# Altium schematic symbol library SCH - MCU - INFINEON - INFINEON S6E2C4AH0XXV2 LQFP-144.SchLib: 1 symbol
Pins are listed as number, name and electrical type; pins without a type are passive.

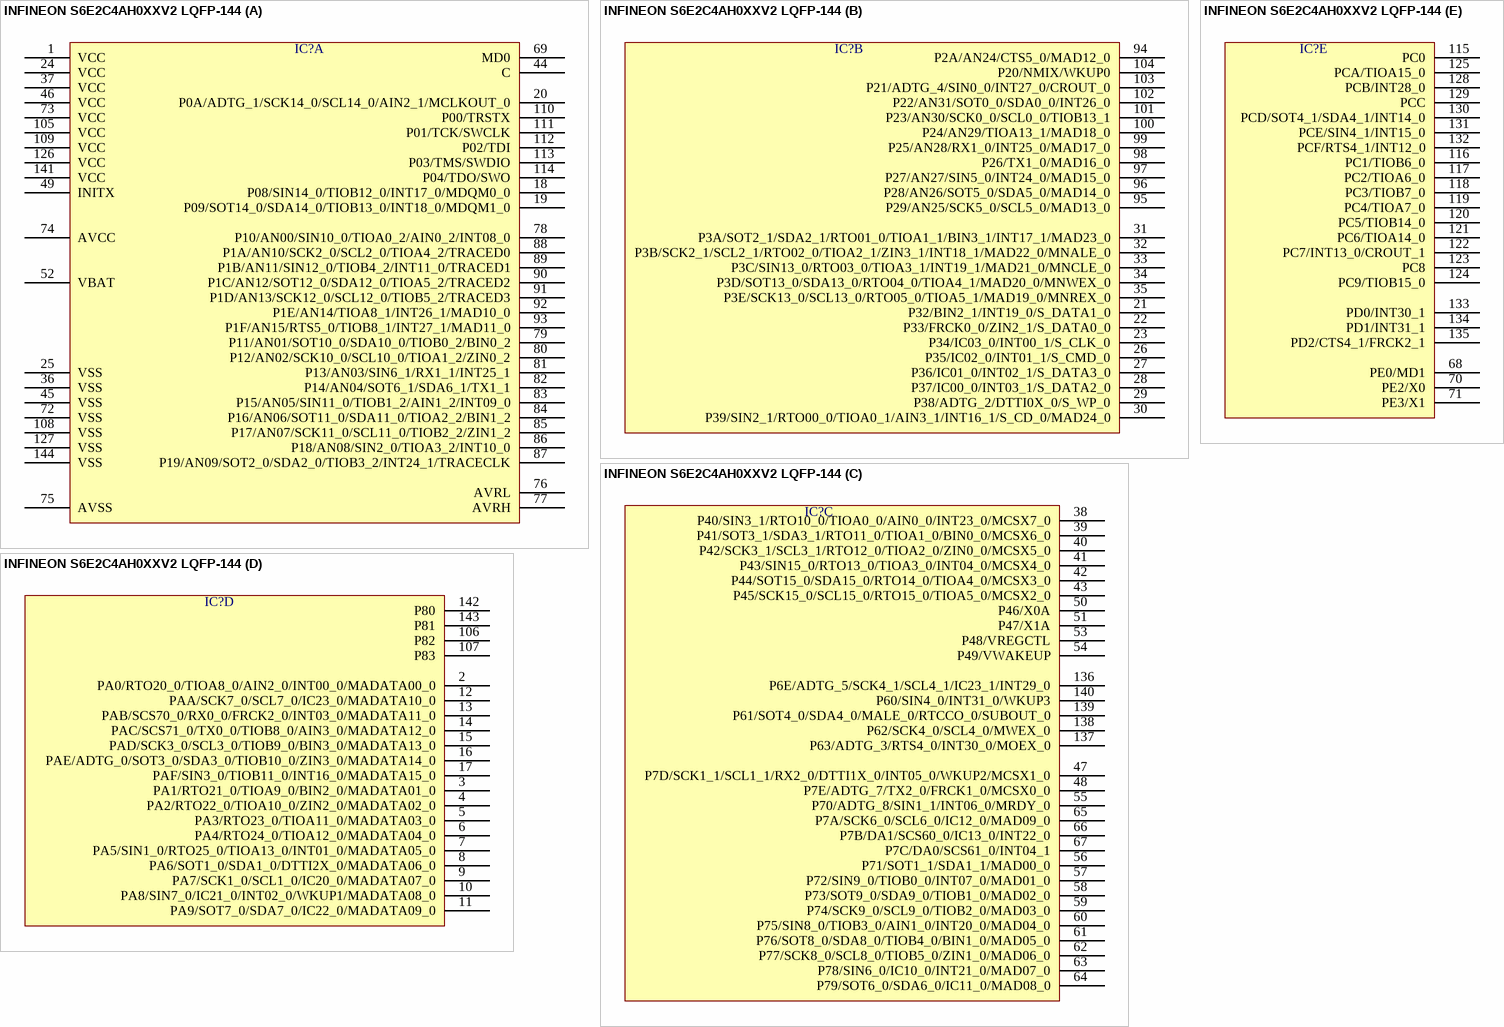
[diagram p0: symbol INFINEON S6E2C4AH0XXV2 LQFP-144]

## INFINEON S6E2C4AH0XXV2 LQFP-144
designator IC?  (value not drawn)
part A pins: 1 VCC, 18 P08/SIN14_0/TIOB12_0/INT17_0/MDQM0_0, 19 P09/SOT14_0/SDA14_0/TIOB13_0/INT18_0/MDQM1_0, 20 P0A/ADTG_1/SCK14_0/SCL14_0/AIN2_1/MCLKOUT_0, 24 VCC, 25 VSS, 36 VSS, 37 VCC, 44 C, 45 VSS, 46 VCC, 49 INITX, 52 VBAT, 69 MD0, 72 VSS, 73 VCC, 74 AVCC, 75 AVSS, 76 AVRL, 77 AVRH, 78 P10/AN00/SIN10_0/TIOA0_2/AIN0_2/INT08_0, 79 P11/AN01/SOT10_0/SDA10_0/TIOB0_2/BIN0_2, 80 P12/AN02/SCK10_0/SCL10_0/TIOA1_2/ZIN0_2, 81 P13/AN03/SIN6_1/RX1_1/INT25_1, 82 P14/AN04/SOT6_1/SDA6_1/TX1_1, 83 P15/AN05/SIN11_0/TIOB1_2/AIN1_2/INT09_0, 84 P16/AN06/SOT11_0/SDA11_0/TIOA2_2/BIN1_2, 85 P17/AN07/SCK11_0/SCL11_0/TIOB2_2/ZIN1_2, 86 P18/AN08/SIN2_0/TIOA3_2/INT10_0, 87 P19/AN09/SOT2_0/SDA2_0/TIOB3_2/INT24_1/TRACECLK, 88 P1A/AN10/SCK2_0/SCL2_0/TIOA4_2/TRACED0, 89 P1B/AN11/SIN12_0/TIOB4_2/INT11_0/TRACED1, 90 P1C/AN12/SOT12_0/SDA12_0/TIOA5_2/TRACED2, 91 P1D/AN13/SCK12_0/SCL12_0/TIOB5_2/TRACED3, 92 P1E/AN14/TIOA8_1/INT26_1/MAD10_0, 93 P1F/AN15/RTS5_0/TIOB8_1/INT27_1/MAD11_0, 105 VCC, 108 VSS, 109 VCC, 110 P00/TRSTX, 111 P01/TCK/SWCLK, 112 P02/TDI, 113 P03/TMS/SWDIO, 114 P04/TDO/SWO, 126 VCC, 127 VSS, 141 VCC, 144 VSS
part B pins: 21 P32/BIN2_1/INT19_0/S_DATA1_0, 22 P33/FRCK0_0/ZIN2_1/S_DATA0_0, 23 P34/IC03_0/INT00_1/S_CLK_0, 26 P35/IC02_0/INT01_1/S_CMD_0, 27 P36/IC01_0/INT02_1/S_DATA3_0, 28 P37/IC00_0/INT03_1/S_DATA2_0, 29 P38/ADTG_2/DTTI0X_0/S_WP_0, 30 P39/SIN2_1/RTO00_0/TIOA0_1/AIN3_1/INT16_1/S_CD_0/MAD24_0, 31 P3A/SOT2_1/SDA2_1/RTO01_0/TIOA1_1/BIN3_1/INT17_1/MAD23_0, 32 P3B/SCK2_1/SCL2_1/RTO02_0/TIOA2_1/ZIN3_1/INT18_1/MAD22_0/MNALE_0, 33 P3C/SIN13_0/RTO03_0/TIOA3_1/INT19_1/MAD21_0/MNCLE_0, 34 P3D/SOT13_0/SDA13_0/RTO04_0/TIOA4_1/MAD20_0/MNWEX_0, 35 P3E/SCK13_0/SCL13_0/RTO05_0/TIOA5_1/MAD19_0/MNREX_0, 94 P2A/AN24/CTS5_0/MAD12_0, 95 P29/AN25/SCK5_0/SCL5_0/MAD13_0, 96 P28/AN26/SOT5_0/SDA5_0/MAD14_0, 97 P27/AN27/SIN5_0/INT24_0/MAD15_0, 98 P26/TX1_0/MAD16_0, 99 P25/AN28/RX1_0/INT25_0/MAD17_0, 100 P24/AN29/TIOA13_1/MAD18_0, 101 P23/AN30/SCK0_0/SCL0_0/TIOB13_1, 102 P22/AN31/SOT0_0/SDA0_0/INT26_0, 103 P21/ADTG_4/SIN0_0/INT27_0/CROUT_0, 104 P20/NMIX/WKUP0
part C pins: 38 P40/SIN3_1/RTO10_0/TIOA0_0/AIN0_0/INT23_0/MCSX7_0, 39 P41/SOT3_1/SDA3_1/RTO11_0/TIOA1_0/BIN0_0/MCSX6_0, 40 P42/SCK3_1/SCL3_1/RTO12_0/TIOA2_0/ZIN0_0/MCSX5_0, 41 P43/SIN15_0/RTO13_0/TIOA3_0/INT04_0/MCSX4_0, 42 P44/SOT15_0/SDA15_0/RTO14_0/TIOA4_0/MCSX3_0, 43 P45/SCK15_0/SCL15_0/RTO15_0/TIOA5_0/MCSX2_0, 47 P7D/SCK1_1/SCL1_1/RX2_0/DTTI1X_0/INT05_0/WKUP2/MCSX1_0, 48 P7E/ADTG_7/TX2_0/FRCK1_0/MCSX0_0, 50 P46/X0A, 51 P47/X1A, 53 P48/VREGCTL, 54 P49/VWAKEUP, 55 P70/ADTG_8/SIN1_1/INT06_0/MRDY_0, 56 P71/SOT1_1/SDA1_1/MAD00_0, 57 P72/SIN9_0/TIOB0_0/INT07_0/MAD01_0, 58 P73/SOT9_0/SDA9_0/TIOB1_0/MAD02_0, 59 P74/SCK9_0/SCL9_0/TIOB2_0/MAD03_0, 60 P75/SIN8_0/TIOB3_0/AIN1_0/INT20_0/MAD04_0, 61 P76/SOT8_0/SDA8_0/TIOB4_0/BIN1_0/MAD05_0, 62 P77/SCK8_0/SCL8_0/TIOB5_0/ZIN1_0/MAD06_0, 63 P78/SIN6_0/IC10_0/INT21_0/MAD07_0, 64 P79/SOT6_0/SDA6_0/IC11_0/MAD08_0, 65 P7A/SCK6_0/SCL6_0/IC12_0/MAD09_0, 66 P7B/DA1/SCS60_0/IC13_0/INT22_0, 67 P7C/DA0/SCS61_0/INT04_1, 136 P6E/ADTG_5/SCK4_1/SCL4_1/IC23_1/INT29_0, 137 P63/ADTG_3/RTS4_0/INT30_0/MOEX_0, 138 P62/SCK4_0/SCL4_0/MWEX_0, 139 P61/SOT4_0/SDA4_0/MALE_0/RTCCO_0/SUBOUT_0, 140 P60/SIN4_0/INT31_0/WKUP3
part D pins: 2 PA0/RTO20_0/TIOA8_0/AIN2_0/INT00_0/MADATA00_0, 3 PA1/RTO21_0/TIOA9_0/BIN2_0/MADATA01_0, 4 PA2/RTO22_0/TIOA10_0/ZIN2_0/MADATA02_0, 5 PA3/RTO23_0/TIOA11_0/MADATA03_0, 6 PA4/RTO24_0/TIOA12_0/MADATA04_0, 7 PA5/SIN1_0/RTO25_0/TIOA13_0/INT01_0/MADATA05_0, 8 PA6/SOT1_0/SDA1_0/DTTI2X_0/MADATA06_0, 9 PA7/SCK1_0/SCL1_0/IC20_0/MADATA07_0, 10 PA8/SIN7_0/IC21_0/INT02_0/WKUP1/MADATA08_0, 11 PA9/SOT7_0/SDA7_0/IC22_0/MADATA09_0, 12 PAA/SCK7_0/SCL7_0/IC23_0/MADATA10_0, 13 PAB/SCS70_0/RX0_0/FRCK2_0/INT03_0/MADATA11_0, 14 PAC/SCS71_0/TX0_0/TIOB8_0/AIN3_0/MADATA12_0, 15 PAD/SCK3_0/SCL3_0/TIOB9_0/BIN3_0/MADATA13_0, 16 PAE/ADTG_0/SOT3_0/SDA3_0/TIOB10_0/ZIN3_0/MADATA14_0, 17 PAF/SIN3_0/TIOB11_0/INT16_0/MADATA15_0, 106 P82, 107 P83, 142 P80, 143 P81
part E pins: 68 PE0/MD1, 70 PE2/X0, 71 PE3/X1, 115 PC0, 116 PC1/TIOB6_0, 117 PC2/TIOA6_0, 118 PC3/TIOB7_0, 119 PC4/TIOA7_0, 120 PC5/TIOB14_0, 121 PC6/TIOA14_0, 122 PC7/INT13_0/CROUT_1, 123 PC8, 124 PC9/TIOB15_0, 125 PCA/TIOA15_0, 128 PCB/INT28_0, 129 PCC, 130 PCD/SOT4_1/SDA4_1/INT14_0, 131 PCE/SIN4_1/INT15_0, 132 PCF/RTS4_1/INT12_0, 133 PD0/INT30_1, 134 PD1/INT31_1, 135 PD2/CTS4_1/FRCK2_1